# Altium footprint library Seeed-OPL-Button.PCBLIB: 15 footprints
Each footprint in its own frame and in the unit in brackets; x right, y up, seen from the top. Pads: shape width x height; smd on the part's side, far side on the other; paste and mask are expansions set on the pad; w line width, h text height; cw(c..) or ccw(c..) is an arc to the next point about the centre after c.
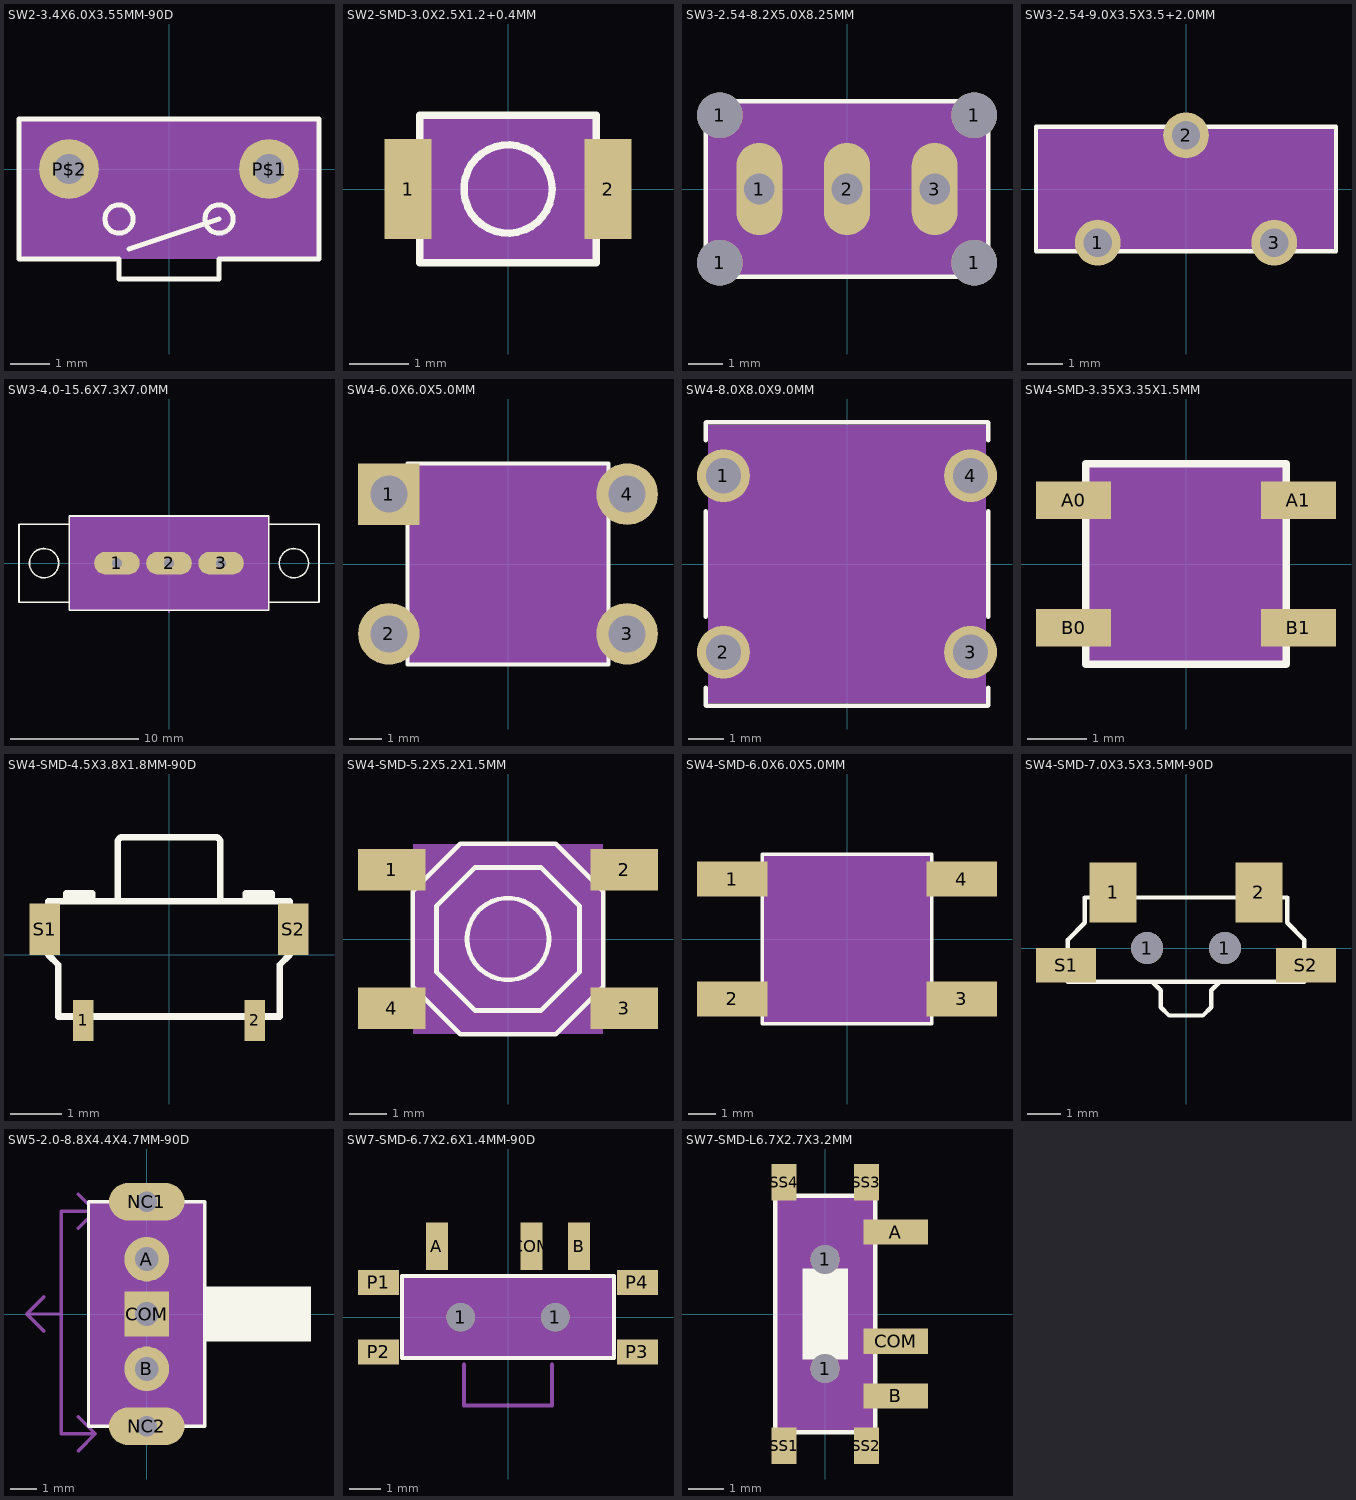
[diagram p0: the footprints below, top view; thin cyan lines are the x and y axes]

## SW2-3.4X6.0X3.55MM-90D [mil]
pads (2):
  round 60 hole 30: P$1(100,0) P$2(-100,0)
Top Overlay:
  circle w5: c50,-50 r14.14
  circle w5: c-50,-50 r14.14
  lines w5: -40,-80 50,-50 ; -150,-90 -50,-90 -50,-110 50,-110 50,-90 150,-90 150,50 -150,50 -150,-90
Mechanical 27:
  region: -150,50 -150,-90 150,-90 150,50

## SW2-SMD-3.0X2.5X1.2+0.4MM [mil]
pads (2):
  rect 31.5x66.93 smd: 1(-66.93,0) 2(66.93,0)
Top Overlay:
  circle w5: c0,0 r29.53
  lines w5: -59.06,-49.21 59.06,-49.21 59.06,49.21 -59.06,49.21 -59.06,-49.21
Mechanical 27:
  rectangle: -59.06,-49.21 59.06,49.21

## SW3-2.54-8.2X5.0X8.25MM [mil]
pads (7):
  round 52 hole 52: 1(-145,-84) 1(-145,84) 1(145,-84) 1(145,84)
  oval 52.5x105 hole 35: 1(-100,0) 2(0,0) 3(100,0)
Top Overlay:
  lines w5: -161,-100 161,-100 161,100 -161,100 -161,-100
Mechanical 11:
  lines w35: -100,-35 -100,35 ; 0,-35 0,35 ; 100,-35 100,35
Mechanical 27:
  rectangle: -161,-100 161,100

## SW3-2.54-9.0X3.5X3.5+2.0MM [mil]
pads (3):
  round 51.18 hole 31.5: 1(-98.43,-59.84) 2(0,59.84) 3(98.43,-59.84)
Top Overlay:
  lines w5: -167.32,-69.69 167.32,-69.69 167.32,69.69 -167.32,69.69 -167.32,-69.69
Mechanical 27:
  rectangle: -165,-70 165,70

## SW3-4.0-15.6X7.3X7.0MM [mil]
pads (3):
  oval 140x70 hole 31.5: 1(-160,0) 2(0,0) 3(160,0)
Top Overlay:
  circle w5: c-384,0 r45
  circle w5: c384,0 r45
  lines w5: -307,-120 -307,-145 307,-145 307,-120 ; -307,-120 -307,120 ; -307,-120 -461,-120 -461,120 -307,120 ; -307,120 -307,145 307,145 307,120 ; 307,-120 307,120 ; 307,-120 461,-120 461,120 307,120
Mechanical 11:
  lines w5: -200,-75 -175,-50 ; -150,-75 -175,-50 ; -25,-75 0,-50 ; 0,-150 0,-100 ; 25,-75 0,-50 ; 150,-75 175,-50 ; 200,-75 175,-50 ; -175,-50 -175,-100 0,-100 ; 0,-100 0,-50 ; 0,-100 175,-100 175,-50
  lines w32: -205,0 -115,0 ; -45,0 45,0 ; 115,0 205,0
  text "slot 3 drills with copper" at -300,-200 h49.6
Mechanical 27:
  rectangle: -307,-145 307,145

## SW4-6.0X6.0X5.0MM [mil]
pads (4):
  rect 75x75 hole 45: 1(-145,85)
  round 75 hole 45: 2(-145,-85) 3(145,-85) 4(145,85)
Top Overlay:
  lines w5: -122.05,-122.05 122.05,-122.05 122.05,122.05 -122.05,122.05 -122.05,-122.05
Mechanical 27:
  rectangle: -122.05,-122.05 122.05,122.05

## SW4-8.0X8.0X9.0MM [mm]
pads (4):
  round 1.5 hole 1: 1(-3.5,2.5) 2(-3.5,-2.5) 3(3.5,-2.5) 4(3.5,2.5)
Top Overlay:
  lines w0.127: -4,-4 -4,-3.5 ; -4,-1.5 -4,1.5 ; -4,3.5 -4,4 ; -3.994,-4.013 3.994,-4.013 ; -3.994,4.013 3.994,4.013 ; 4,-4 4,-3.5 ; 4,-1.5 4,1.5 ; 4,3.5 4,4
Mechanical 27:
  rectangle: -3.937,-3.937 3.937,3.937

## SW4-SMD-3.35X3.35X1.5MM [mil]
pads (4):
  rect 50x25 smd: A0(-75,42.5) A1(75,42.5) B0(-75,-42.5) B1(75,-42.5)
Top Overlay:
  lines w5: -67,-67 67,-67 67,67 -67,67 -67,-67
Mechanical 27:
  rectangle: -67,-67 67,67

## SW4-SMD-4.5X3.8X1.8MM-90D [mil]
pads (4):
  rect 15.75x31.5 smd: 1(-65.94,-50.28) 2(65.94,-50.28)
  rect 23.62x39.37 smd: S1(-95.47,19.69) S2(95.47,19.69)
Top Overlay:
  lines w5: -76.77,45.28 -61.02,45.28 ; 61.02,45.28 76.77,45.28 ; -78.74,41.34 -59.06,41.34 ; -78.74,41.34 -92.52,41.34 -92.52,0 -85,-7.52 -85,-47.24 85,-47.24 85,-7.52 92.52,0 92.52,41.34 78.74,41.34 ; -78.74,41.34 -78.74,47.24 -59.06,47.24 -59.06,41.34 ; -59.06,41.34 -39.37,41.34 ; -39.37,41.34 39.37,41.34 ; -39.37,41.34 -39.37,86.61 cw(c-35.43,86.61) -35.43,90.55 35.43,90.55 cw(c35.43,86.61) 39.37,86.61 39.37,41.34 ; 39.37,41.34 59.06,41.34 ; 59.06,41.34 78.74,41.34 ; 59.06,41.34 59.06,47.24 78.74,47.24 78.74,41.34

## SW4-SMD-5.2X5.2X1.5MM [mil]
pads (4):
  rect 70.87x43.31 smd: 1(-122.05,72.83) 2(122.05,72.83) 3(122.05,-72.83) 4(-122.05,-72.83)
Top Overlay:
  circle w5: c0,0 r43.01
  lines w5: -100,-50 -50,-100 50,-100 100,-50 100,50 50,100 -50,100 -100,50 -100,-50 ; -75,-35 -35,-75 35,-75 75,-35 75,35 35,75 -35,75 -75,35 -75,-35
Mechanical 27:
  rectangle: -100,-100 100,100

## SW4-SMD-6.0X6.0X5.0MM [mil]
pads (4):
  rect 100x50 smd: 1(-162.56,85) 2(-162.56,-85) 3(162.56,-85) 4(162.56,85)
Top Overlay:
  lines w5: -120,-120 120,-120 120,120 -120,120 -120,-120
Mechanical 27:
  rectangle: -120,-120 120,120

## SW4-SMD-7.0X3.5X3.5MM-90D [mil]
pads (6):
  rect 55x70 smd: 1(-85,65) 2(85,65)
  round 37.4 hole 37.4: 1(-45.28,0) 1(45.28,0)
  rect 70x40 smd: S1(-140,-20) S2(140,-20)
Top Overlay:
  lines w5: -39.37,-39.37 39.37,-39.37 ; -39.37,-39.37 -137.8,-39.37 -137.8,9.84 -118.11,29.53 -118.11,59.06 118.11,59.06 118.11,29.53 137.8,9.84 137.8,-39.37 39.37,-39.37 ; -39.37,-39.37 -29.53,-49.21 -29.53,-68.9 -19.69,-78.74 19.69,-78.74 29.53,-68.9 29.53,-49.21 39.37,-39.37

## SW5-2.0-8.8X4.4X4.7MM-90D [mil]
pads (5):
  round 65 hole 35: A(0,80) B(0,-80)
  rect 65x65 hole 35: COM(0,0)
  oval 110x55 hole 30: NC1(0,164) NC2(0,-164)
Top Overlay:
  rectangle: 85,-40 240,40
  lines w5: -85,-164 85,-164 85,164 -85,164 -85,-164
Mechanical 11:
  lines w5: -150,-25 -175,0 ; -150,25 -175,0 ; -100,-200 -75,-175 ; -100,-150 -75,-175 ; -100,125 -75,150 ; -100,175 -75,150 ; -175,0 -125,0 ; -125,0 -125,150 -75,150 ; -125,0 -125,-175 -75,-175
  lines w35: -30,-164 30,-164 ; -30,164 30,164
  text "slot drills with copper" at -225,350 h49.6
Mechanical 27:
  rectangle: -85,-163 85,163

## SW7-SMD-6.7X2.6X1.4MM-90D [mil]
pads (9):
  round 35.43 hole 35.43: 1(-59.06,0) 1(59.06,0)
  rect 27.56x59.06 smd: A(-88.58,88.58) B(88.58,88.58) COM(29.53,88.58)
  rect 51.18x31.5 smd: P1(-161.42,43.31) P2(-161.42,-43.31) P3(161.42,-43.31) P4(161.42,43.31)
Top Overlay:
  lines w5: -131.89,-51.18 -131.89,51.18 131.89,51.18 131.89,-51.18 -131.89,-51.18
Mechanical 16:
  lines w5: -55.12,-59.06 -55.12,-110.24 55.12,-110.24 55.12,-59.06
Mechanical 27:
  rectangle: -131.89,-51.18 131.89,51.18

## SW7-SMD-L6.7X2.7X3.2MM [mil]
pads (9):
  round 32 hole 32: 1(0,-60) 1(0,60)
  rect 70.87x27.56 smd: A(77.87,90) B(77.87,-90) COM(77.87,-30)
  rect 27.56x40 smd: SS1(-45.28,-145) SS2(45.28,-145) SS3(45.28,145) SS4(-45.28,145)
Top Overlay:
  rectangle: -25,-50 25,50
  lines w5: -55,-130 55,-130 55,130 -55,130 -55,-130
Mechanical 27:
  rectangle: -55,-130 55,130